# Altium schematic symbol library DSP_Motorola.SchLib: 1 symbol
Pins are listed as number, name and electrical type; pins without a type are passive.

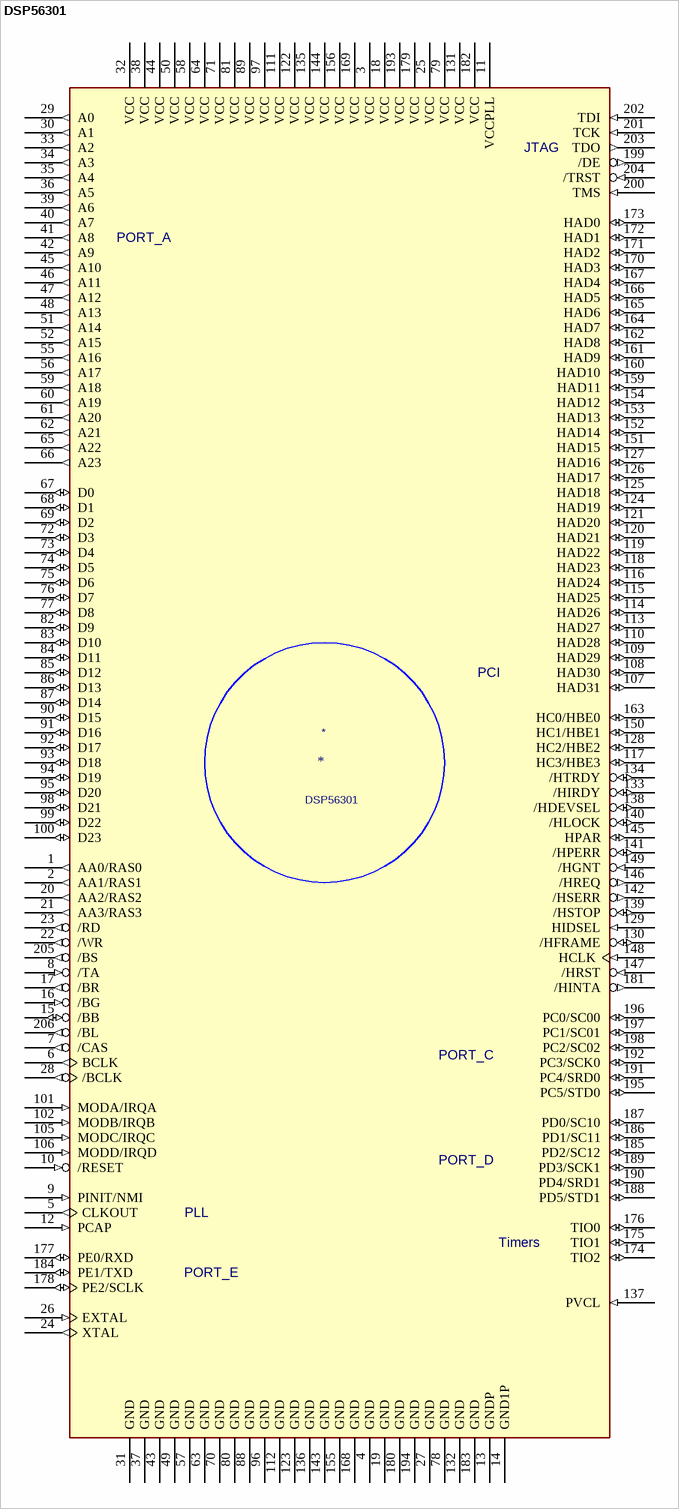
[diagram p0: symbol DSP56301]

## DSP56301
designator *  value DSP56301
ki_keywords: DSP PCI; ki_description: 24-Bit Digital Signal Processor with PCI bus interface; ki_fp_filters: PQFP*28x28mm*P0.5mm*; Footprint: Package_QFP:PQFP-208_28x28mm_P0.5mm; Supplier: https://www.nxp.com/docs/en/data-sheet/DSP56301DS.pdf
footprint PQFP-208_28x28mm_P0.5mm
pins: 1 AA0/RAS0 (out), 2 AA1/RAS1 (out), 3 VCC (power), 4 GND (power), 5 CLKOUT (out), 6 BCLK (out), 7 /CAS (out), 8 /TA (in), 9 PINIT/NMI (in), 10 /RESET (in), 11 VCCPLL (power), 12 PCAP (in), 13 GNDP (power), 14 GND1P (power), 15 /BB (io), 16 /BG (in), 17 /BR (out), 18 VCC (power), 19 GND (power), 20 AA2/RAS2 (out), 21 AA3/RAS3 (out), 22 /WR (out), 23 /RD (out), 24 XTAL (out), 25 VCC (power), 26 EXTAL (in), 27 GND (power), 28 /BCLK (out), 29 A0 (out), 30 A1 (out), 31 GND (power), 32 VCC (power), 33 A2 (out), 34 A3 (out), 35 A4 (out), 36 A5 (out), 37 GND (power), 38 VCC (power), 39 A6 (out), 40 A7 (out), 41 A8 (out), 42 A9 (out), 43 GND (power), 44 VCC (power), 45 A10 (out), 46 A11 (out), 47 A12 (out), 48 A13 (out), 49 GND (power), 50 VCC (power), 51 A14 (out), 52 A15 (out), 55 A16 (out), 56 A17 (out), 57 GND (power), 58 VCC (power), 59 A18 (out), 60 A19 (out), 61 A20 (out), 62 A21 (out), 63 GND (power), 64 VCC (power), 65 A22 (out), 66 A23 (out), 67 D0 (io), 68 D1 (io), 69 D2 (io), 70 GND (power), 71 VCC (power), 72 D3 (io), 73 D4 (io), 74 D5 (io), 75 D6 (io), 76 D7 (io), 77 D8 (io), 78 GND (power), 79 VCC (power), 80 GND (power), 81 VCC (power), 82 D9 (io), 83 D10 (io), 84 D11 (io), 85 D12 (io), 86 D13 (io), 87 D14 (io), 88 GND (power), 89 VCC (power), 90 D15 (io), 91 D16 (io), 92 D17 (io), 93 D18 (io), 94 D19 (io), 95 D20 (io), 96 GND (power), 97 VCC (power), 98 D21 (io), 99 D22 (io), 100 D23 (io), 101 MODA/IRQA (in), 102 MODB/IRQB (in), 105 MODC/IRQC (in), 106 MODD/IRQD (in), 107 HAD31 (io), 108 HAD30 (io), 109 HAD29 (io), 110 HAD28 (io), 111 VCC (power), 112 GND (power), 113 HAD27 (io), 114 HAD26 (io), 115 HAD25 (io), 116 HAD24 (io), 117 HC3/HBE3 (io), 118 HAD23 (io), 119 HAD22 (io), 120 HAD21 (io), 121 HAD20 (io), 122 VCC (power), 123 GND (power), 124 HAD19 (io), 125 HAD18 (io), 126 HAD17 (io), 127 HAD16 (io), 128 HC2/HBE2 (io), 129 HIDSEL (in), 130 /HFRAME (io), 131 VCC (power), 132 GND (power), 133 /HIRDY (io), 134 /HTRDY (io), 135 VCC (power), 136 GND (power), 137 PVCL (in), 138 /HDEVSEL (io), 139 /HSTOP (io), 140 /HLOCK (io), 141 /HPERR (io), 142 /HSERR (out), 143 GND (power), 144 VCC (power), 145 HPAR (io), 146 /HREQ (out), 147 /HRST (in), 148 HCLK (in), 149 /HGNT (in), 150 HC1/HBE1 (io), 151 HAD15 (io), 152 HAD14 (io), 153 HAD13 (io), 154 HAD12 (io), 155 GND (power), 156 VCC (power), 159 HAD11 (io), 160 HAD10 (io), 161 HAD9 (io), 162 HAD8 (io), 163 HC0/HBE0 (io), 164 HAD7 (io), 165 HAD6 (io), 166 HAD5 (io), 167 HAD4 (io), 168 GND (power), 169 VCC (power), 170 HAD3 (io), 171 HAD2 (io), 172 HAD1 (io), 173 HAD0 (io), 174 TIO2 (io), 175 TIO1 (io), 176 TIO0 (io), 177 PE0/RXD (io), 178 PE2/SCLK (io), 179 VCC (power), 180 GND (power), 181 /HINTA (out), 182 VCC (power), 183 GND (power), 184 PE1/TXD (io), 185 PD2/SC12 (io), 186 PD1/SC11 (io), 187 PD0/SC10 (io), 188 PD5/STD1 (io), 189 PD3/SCK1 (io), 190 PD4/SRD1 (io), 191 PC4/SRD0 (io), 192 PC3/SCK0 (io), 193 VCC (power), 194 GND (power), 195 PC5/STD0 (io), 196 PC0/SC00 (io), 197 PC1/SC01 (io), 198 PC2/SC02 (io), 199 /DE (out), 200 TMS (in), 201 TCK (in), 202 TDI (in), 203 TDO (out), 204 /TRST (in), 205 /BS (out), 206 /BL (out)
text: JTAG; PORT_A; PCI; PORT_C; PORT_D; PLL; Timers; PORT_E